# EAGLE library part WS2811 (library ws2811)
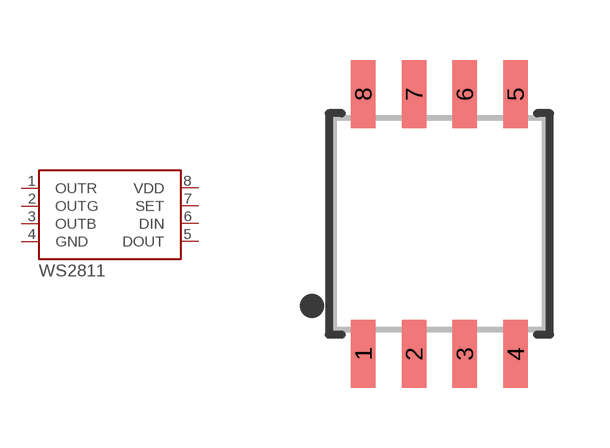
[diagram p0: symbol with the pads of SOIC-8; footprint SOIC-8]

Designator prefix U

## WS2811  [SOIC-8]
1  OUTR
2  OUTG
3  OUTB
4  GND
5  DOUT
6  DIN
7  SET
8  VDD

## Footprint SOIC-8 (pad centres in mm)
8-Pin SOIC 208-mil
smd 0.61 x 1.702: 1 -1.905,-3.251; 2 -0.635,-3.251; 3 0.635,-3.251; 4 1.905,-3.251; 5 1.905,3.251; 6 0.635,3.251; 7 -0.635,3.251; 8 -1.905,3.251